# Altium schematic symbol library IMU_MPU6050.SchLib: 1 symbol
Pins are listed as number, name and electrical type; pins without a type are passive.

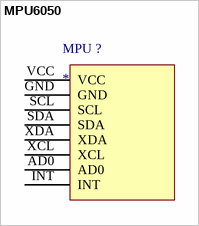
[diagram p0: symbol MPU6050]

## MPU6050
designator MPU ?
footprint MPU6050
pins: AD0, GND, INT, SCL, SDA, VCC, XCL, XDA